# Altium integrated library Microchip PIC32MX.IntLib: 556 symbols (part 1 of 38)
Pins are listed as number, name and electrical type; pins without a type are passive.

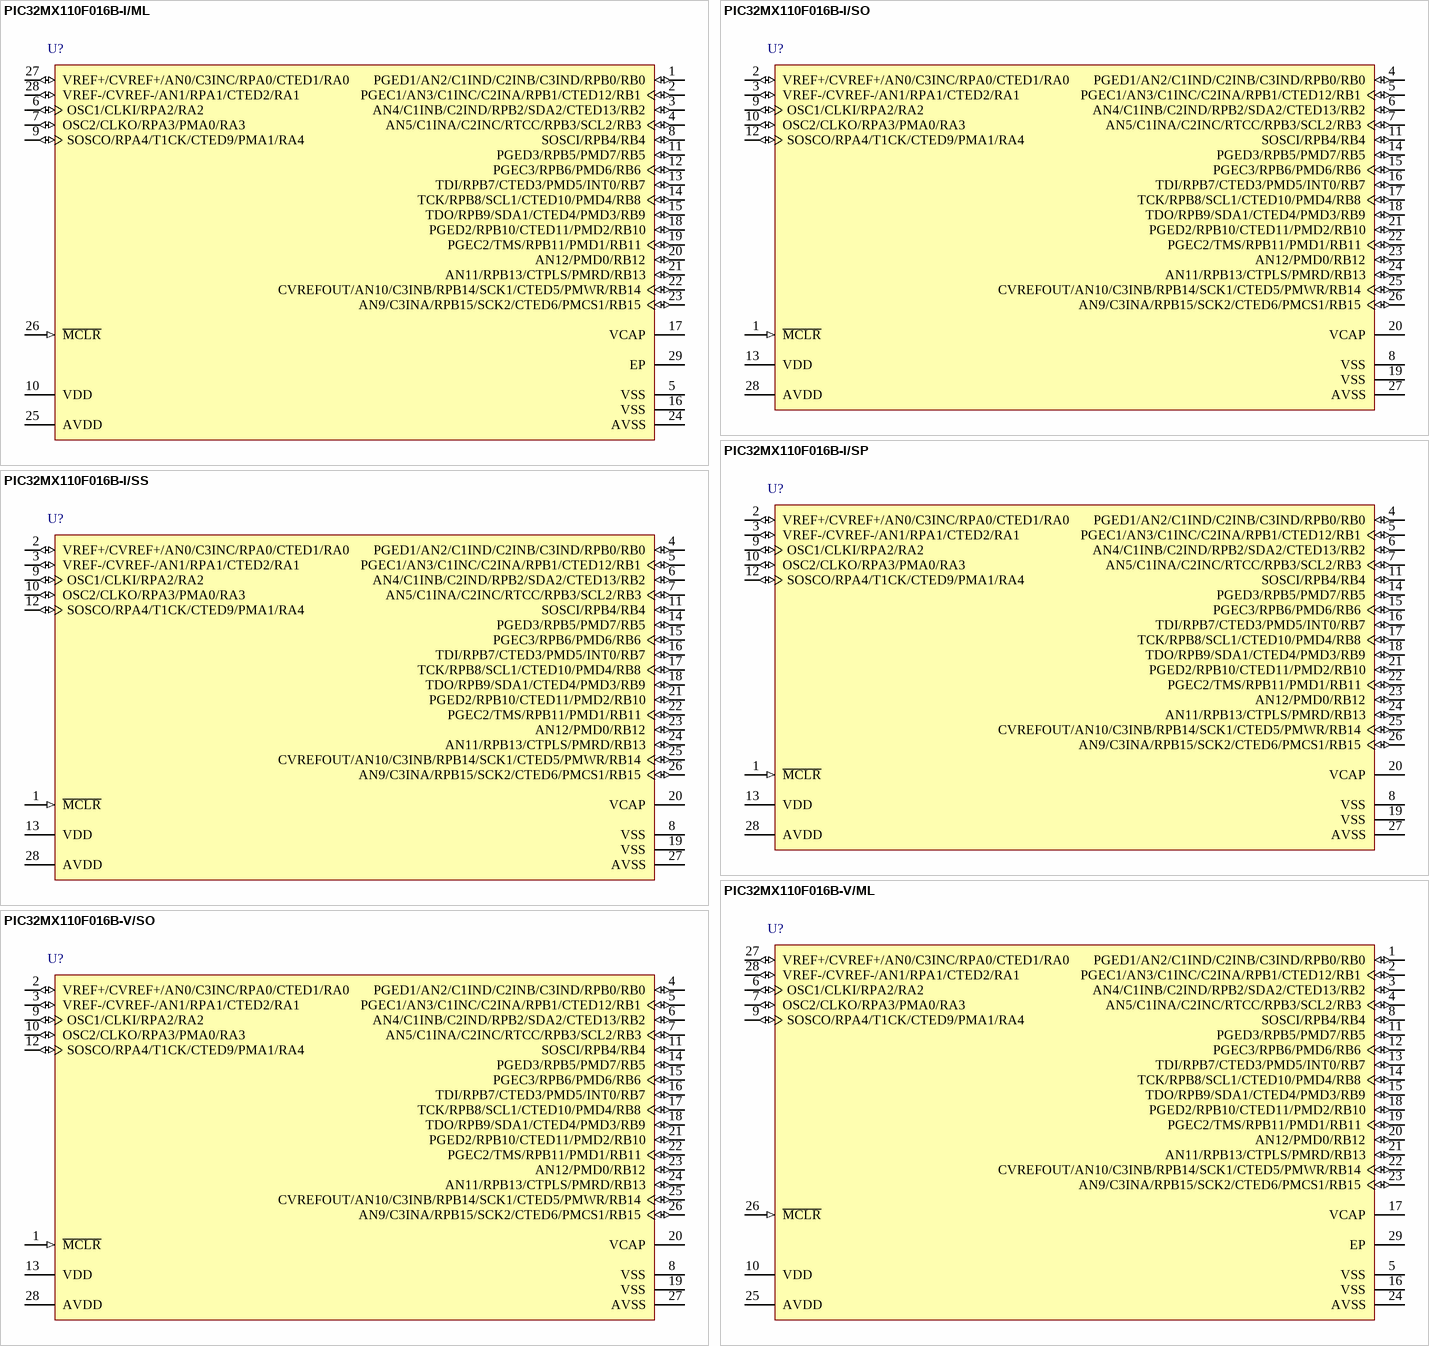
[diagram p0: symbols PIC32MX110F016B-I/ML to PIC32MX110F016B-V/SO]

## PIC32MX110F016B-I/ML
designator U?
32-bit Microcontroller with Audio and Graphics Interface, USB and Advanced Analog, 40 MHz, 21 I/O, PMP, -40 to 85 degC, 28-pin QFN (ML28), Tube; Manufacturer: Microchip; PartNumber: PIC32MX110F016B-I/ML; DatasheetVersion: Rev. E; PackageVersion: C04-105C; PackageReference: QFN-ML28; PackageDescription: 28-Lead Plastic Quad Flat, 6 x 6 mm Body, 0.65 mm Pitch; Supplier 1: Digi-Key; Supplier Part Number 1: PIC32MX110F016B-I/ML-ND; Mounting Technology: Surface Mount; ComponentLink1Description: Manufacturer URL; ComponentLink1URL: http://www.microchip.com; ComponentLink2Description: Datasheet; ComponentLink2URL: http://ww1.microchip.com/downloads/en/DeviceDoc/61168E.pdf; ComponentLink3Description: Package Specification; ComponentLink3URL: http://www.microchip.com/stellent/groups/techpub_sg/documents/packagingspec/en012702.pdf; ComponentLink4Description: Product URL; ComponentLink4URL: http://www.microchip.com/PIC32MX110F016B
footprint MCHP-QFN-ML28_N (QFN, 28-Leads, Body 6x6mm, Pitch 0.65mm, Thermal Pad 3.7x3.7mm, IPC Medium Density)
footprint MCHP-QFN-ML28_L (QFN, 28-Leads, Body 6x6mm, Pitch 0.65mm, Thermal Pad 3.7x3.7mm, IPC High Density)
footprint MCHP-QFN-ML28_M (QFN, 28-Leads, Body 6x6mm, Pitch 0.65mm, Thermal Pad 3.7x3.7mm, IPC Low Density)
pins: 1 PGED1/AN2/C1IND/C2INB/C3IND/RPB0/RB0 (io), 2 PGEC1/AN3/C1INC/C2INA/RPB1/CTED12/RB1 (io), 3 AN4/C1INB/C2IND/RPB2/SDA2/CTED13/RB2 (io), 4 AN5/C1INA/C2INC/RTCC/RPB3/SCL2/RB3 (io), 5 VSS (power) "Ground reference for logic and I/O pins. This pin must be connected at all times.", 6 OSC1/CLKI/RPA2/RA2 (io), 7 OSC2/CLKO/RPA3/PMA0/RA3 (io), 8 SOSCI/RPB4/RB4 (io), 9 SOSCO/RPA4/T1CK/CTED9/PMA1/RA4 (io), 10 VDD (power) "Positive supply for peripheral logic and I/O pins", 11 PGED3/RPB5/PMD7/RB5 (io), 12 PGEC3/RPB6/PMD6/RB6 (io), 13 TDI/RPB7/CTED3/PMD5/INT0/RB7 (io), 14 TCK/RPB8/SCL1/CTED10/PMD4/RB8 (io), 15 TDO/RPB9/SDA1/CTED4/PMD3/RB9 (io), 16 VSS (power) "Ground reference for logic and I/O pins. This pin must be connected at all times.", 17 VCAP "CPU logic filter capacitor connection", 18 PGED2/RPB10/CTED11/PMD2/RB10 (io), 19 PGEC2/TMS/RPB11/PMD1/RB11 (io), 20 AN12/PMD0/RB12 (io), 21 AN11/RPB13/CTPLS/PMRD/RB13 (io), 22 CVREFOUT/AN10/C3INB/RPB14/SCK1/CTED5/PMWR/RB14 (io), 23 AN9/C3INA/RPB15/SCK2/CTED6/PMCS1/RB15 (io), 24 AVSS (power) "Ground reference for analog modules", 25 AVDD (power) "Positive supply for analog modules. This pin must be connected at all times.", 26 ~{MCLR} (in) "Master Clear (Reset) input. This pin is an active-low Reset to the device.", 27 VREF+/CVREF+/AN0/C3INC/RPA0/CTED1/RA0 (io), 28 VREF-/CVREF-/AN1/RPA1/CTED2/RA1 (io), 29 EP

## PIC32MX110F016B-I/SO
designator U?
32-bit Microcontroller with Audio and Graphics Interface, USB and Advanced Analog, 40 MHz, 21 I/O, PMP, -40 to 85 degC, 28-pin SOIC (SO28), Tube; Manufacturer: Microchip; PartNumber: PIC32MX110F016B-I/SO; DatasheetVersion: Rev. E; PackageVersion: C04-052C; PackageReference: SOIC-SO28; PackageDescription: 28-Lead Plastic Small Outline, 17.9 x 7.5 mm Body, 1.27 mm Pitch; Supplier 1: Digi-Key; Supplier Part Number 1: PIC32MX110F016B-I/SO-ND; Mounting Technology: Surface Mount; ComponentLink1Description: Manufacturer URL; ComponentLink1URL: http://www.microchip.com; ComponentLink2Description: Datasheet; ComponentLink2URL: http://ww1.microchip.com/downloads/en/DeviceDoc/61168E.pdf; ComponentLink3Description: Package Specification; ComponentLink3URL: http://www.microchip.com/stellent/groups/techpub_sg/documents/packagingspec/en012702.pdf; ComponentLink4Description: Product URL; ComponentLink4URL: http://www.microchip.com/PIC32MX110F016B
footprint MCHP-SOIC-SO28_N (SOIC, 28-Leads, Body 17.9x7.5mm, Pitch 1.27mm, IPC Medium Density)
footprint MCHP-SOIC-SO28_L (SOIC, 28-Leads, Body 17.9x7.5mm, Pitch 1.27mm, IPC High Density)
footprint MCHP-SOIC-SO28_M (SOIC, 28-Leads, Body 17.9x7.5mm, Pitch 1.27mm, IPC Low Density)
pins: 1 ~{MCLR} (in) "Master Clear (Reset) input. This pin is an active-low Reset to the device", 2 VREF+/CVREF+/AN0/C3INC/RPA0/CTED1/RA0 (io), 3 VREF-/CVREF-/AN1/RPA1/CTED2/RA1 (io), 4 PGED1/AN2/C1IND/C2INB/C3IND/RPB0/RB0 (io), 5 PGEC1/AN3/C1INC/C2INA/RPB1/CTED12/RB1 (io), 6 AN4/C1INB/C2IND/RPB2/SDA2/CTED13/RB2 (io), 7 AN5/C1INA/C2INC/RTCC/RPB3/SCL2/RB3 (io), 8 VSS (power) "Ground reference for logic and I/O pins. This pin must be connected at all times.", 9 OSC1/CLKI/RPA2/RA2 (io), 10 OSC2/CLKO/RPA3/PMA0/RA3 (io), 11 SOSCI/RPB4/RB4 (io), 12 SOSCO/RPA4/T1CK/CTED9/PMA1/RA4 (io), 13 VDD (power) "Positive supply for peripheral logic and I/O pins", 14 PGED3/RPB5/PMD7/RB5 (io), 15 PGEC3/RPB6/PMD6/RB6 (io), 16 TDI/RPB7/CTED3/PMD5/INT0/RB7 (io), 17 TCK/RPB8/SCL1/CTED10/PMD4/RB8 (io), 18 TDO/RPB9/SDA1/CTED4/PMD3/RB9 (io), 19 VSS (power) "Ground reference for logic and I/O pins. This pin must be connected at all times.", 20 VCAP "CPU logic filter capacitor connection", 21 PGED2/RPB10/CTED11/PMD2/RB10 (io), 22 PGEC2/TMS/RPB11/PMD1/RB11 (io), 23 AN12/PMD0/RB12 (io), 24 AN11/RPB13/CTPLS/PMRD/RB13 (io), 25 CVREFOUT/AN10/C3INB/RPB14/SCK1/CTED5/PMWR/RB14 (io), 26 AN9/C3INA/RPB15/SCK2/CTED6/PMCS1/RB15 (io), 27 AVSS (power) "Ground reference for analog modules", 28 AVDD (power) "Positive supply for analog modules. This pin must be connected at all times"

## PIC32MX110F016B-I/SP
designator U?
32-bit Microcontroller with Audio and Graphics Interface, USB and Advanced Analog, 40 MHz, 21 I/O, PMP, -40 to 85 degC, 28-pin SPDIP (SP28), Tube; Manufacturer: Microchip; PartNumber: PIC32MX110F016B-I/SP; DatasheetVersion: Rev. E; PackageVersion: C04-070B; PackageReference: SPDIP-SP28; PackageDescription: 28-Lead Plastic Dual In-Line, 34.86 x 6.79 mm Body, 2.54 mm Pitch; Supplier 1: Digi-Key; Supplier Part Number 1: PIC32MX110F016B-I/SP-ND; Mounting Technology: Through Hole; ComponentLink1Description: Manufacturer URL; ComponentLink1URL: http://www.microchip.com; ComponentLink2Description: Datasheet; ComponentLink2URL: http://ww1.microchip.com/downloads/en/DeviceDoc/61168E.pdf; ComponentLink3Description: Package Specification; ComponentLink3URL: http://www.microchip.com/stellent/groups/techpub_sg/documents/packagingspec/en012702.pdf; ComponentLink4Description: Product URL; ComponentLink4URL: http://www.microchip.com/PIC32MX110F016B
footprint MCHP-SPDIP-SP28 (DIP, 28-Leads, Body 34.86x6.79mm, Pitch 2.54mm)
pins: 1 ~{MCLR} (in) "Master Clear (Reset) input. This pin is an active-low Reset to the device", 2 VREF+/CVREF+/AN0/C3INC/RPA0/CTED1/RA0 (io), 3 VREF-/CVREF-/AN1/RPA1/CTED2/RA1 (io), 4 PGED1/AN2/C1IND/C2INB/C3IND/RPB0/RB0 (io), 5 PGEC1/AN3/C1INC/C2INA/RPB1/CTED12/RB1 (io), 6 AN4/C1INB/C2IND/RPB2/SDA2/CTED13/RB2 (io), 7 AN5/C1INA/C2INC/RTCC/RPB3/SCL2/RB3 (io), 8 VSS (power) "Ground reference for logic and I/O pins. This pin must be connected at all times.", 9 OSC1/CLKI/RPA2/RA2 (io), 10 OSC2/CLKO/RPA3/PMA0/RA3 (io), 11 SOSCI/RPB4/RB4 (io), 12 SOSCO/RPA4/T1CK/CTED9/PMA1/RA4 (io), 13 VDD (power) "Positive supply for peripheral logic and I/O pins", 14 PGED3/RPB5/PMD7/RB5 (io), 15 PGEC3/RPB6/PMD6/RB6 (io), 16 TDI/RPB7/CTED3/PMD5/INT0/RB7 (io), 17 TCK/RPB8/SCL1/CTED10/PMD4/RB8 (io), 18 TDO/RPB9/SDA1/CTED4/PMD3/RB9 (io), 19 VSS (power) "Ground reference for logic and I/O pins. This pin must be connected at all times.", 20 VCAP "CPU logic filter capacitor connection", 21 PGED2/RPB10/CTED11/PMD2/RB10 (io), 22 PGEC2/TMS/RPB11/PMD1/RB11 (io), 23 AN12/PMD0/RB12 (io), 24 AN11/RPB13/CTPLS/PMRD/RB13 (io), 25 CVREFOUT/AN10/C3INB/RPB14/SCK1/CTED5/PMWR/RB14 (io), 26 AN9/C3INA/RPB15/SCK2/CTED6/PMCS1/RB15 (io), 27 AVSS (power) "Ground reference for analog modules", 28 AVDD (power) "Positive supply for analog modules. This pin must be connected at all times"

## PIC32MX110F016B-I/SS
designator U?
32-bit Microcontroller with Audio and Graphics Interface, USB and Advanced Analog, 40 MHz, 21 I/O, PMP, -40 to 85 degC, 28-pin SSOP (SS28), Tube; Manufacturer: Microchip; PartNumber: PIC32MX110F016B-I/SS; DatasheetVersion: Rev. E; PackageVersion: C04-073B; PackageReference: SSOP-SS28; PackageDescription: 28-Lead Plastic Shrink Small Outline, 10.2 x 5.3 mm Body, 0.65 mm Pitch; Supplier 1: Digi-Key; Supplier Part Number 1: PIC32MX110F016B-I/SS-ND; Mounting Technology: Surface Mount; ComponentLink1Description: Manufacturer URL; ComponentLink1URL: http://www.microchip.com; ComponentLink2Description: Datasheet; ComponentLink2URL: http://ww1.microchip.com/downloads/en/DeviceDoc/61168E.pdf; ComponentLink3Description: Package Specification; ComponentLink3URL: http://www.microchip.com/stellent/groups/techpub_sg/documents/packagingspec/en012702.pdf; ComponentLink4Description: Product URL; ComponentLink4URL: http://www.microchip.com/PIC32MX110F016B
footprint MCHP-SSOP-SS28_N (SOP, 28-Leads, Body 10.2x5.3mm, Pitch 0.65mm, IPC Medium Density)
footprint MCHP-SSOP-SS28_L (SOP, 28-Leads, Body 10.2x5.3mm, Pitch 0.65mm, IPC High Density)
footprint MCHP-SSOP-SS28_M (SOP, 28-Leads, Body 10.2x5.3mm, Pitch 0.65mm, IPC Low Density)
pins: 1 ~{MCLR} (in) "Master Clear (Reset) input. This pin is an active-low Reset to the device", 2 VREF+/CVREF+/AN0/C3INC/RPA0/CTED1/RA0 (io), 3 VREF-/CVREF-/AN1/RPA1/CTED2/RA1 (io), 4 PGED1/AN2/C1IND/C2INB/C3IND/RPB0/RB0 (io), 5 PGEC1/AN3/C1INC/C2INA/RPB1/CTED12/RB1 (io), 6 AN4/C1INB/C2IND/RPB2/SDA2/CTED13/RB2 (io), 7 AN5/C1INA/C2INC/RTCC/RPB3/SCL2/RB3 (io), 8 VSS (power) "Ground reference for logic and I/O pins. This pin must be connected at all times.", 9 OSC1/CLKI/RPA2/RA2 (io), 10 OSC2/CLKO/RPA3/PMA0/RA3 (io), 11 SOSCI/RPB4/RB4 (io), 12 SOSCO/RPA4/T1CK/CTED9/PMA1/RA4 (io), 13 VDD (power) "Positive supply for peripheral logic and I/O pins", 14 PGED3/RPB5/PMD7/RB5 (io), 15 PGEC3/RPB6/PMD6/RB6 (io), 16 TDI/RPB7/CTED3/PMD5/INT0/RB7 (io), 17 TCK/RPB8/SCL1/CTED10/PMD4/RB8 (io), 18 TDO/RPB9/SDA1/CTED4/PMD3/RB9 (io), 19 VSS (power) "Ground reference for logic and I/O pins. This pin must be connected at all times.", 20 VCAP "CPU logic filter capacitor connection", 21 PGED2/RPB10/CTED11/PMD2/RB10 (io), 22 PGEC2/TMS/RPB11/PMD1/RB11 (io), 23 AN12/PMD0/RB12 (io), 24 AN11/RPB13/CTPLS/PMRD/RB13 (io), 25 CVREFOUT/AN10/C3INB/RPB14/SCK1/CTED5/PMWR/RB14 (io), 26 AN9/C3INA/RPB15/SCK2/CTED6/PMCS1/RB15 (io), 27 AVSS (power) "Ground reference for analog modules", 28 AVDD (power) "Positive supply for analog modules. This pin must be connected at all times"

## PIC32MX110F016B-V/ML
designator U?
32-bit Microcontroller with Audio and Graphics Interface, USB and Advanced Analog, 40 MHz, 21 I/O, PMP, 28-pin QFN (ML28), Tube; Manufacturer: Microchip; PartNumber: PIC32MX110F016B-V/ML; DatasheetVersion: Rev. E; PackageVersion: C04-105C; PackageReference: QFN-ML28; PackageDescription: 28-Lead Plastic Quad Flat, 6 x 6 mm Body, 0.65 mm Pitch; Supplier 1: Digi-Key; Supplier Part Number 1: PIC32MX110F016B-V/ML-ND; Mounting Technology: Surface Mount; ComponentLink1Description: Manufacturer URL; ComponentLink1URL: http://www.microchip.com; ComponentLink2Description: Datasheet; ComponentLink2URL: http://ww1.microchip.com/downloads/en/DeviceDoc/61168E.pdf; ComponentLink3Description: Package Specification; ComponentLink3URL: http://www.microchip.com/stellent/groups/techpub_sg/documents/packagingspec/en012702.pdf; ComponentLink4Description: Product URL; ComponentLink4URL: http://www.microchip.com/PIC32MX110F016B
footprint MCHP-QFN-ML28_N (QFN, 28-Leads, Body 6x6mm, Pitch 0.65mm, Thermal Pad 3.7x3.7mm, IPC Medium Density)
footprint MCHP-QFN-ML28_L (QFN, 28-Leads, Body 6x6mm, Pitch 0.65mm, Thermal Pad 3.7x3.7mm, IPC High Density)
footprint MCHP-QFN-ML28_M (QFN, 28-Leads, Body 6x6mm, Pitch 0.65mm, Thermal Pad 3.7x3.7mm, IPC Low Density)
pins: 1 PGED1/AN2/C1IND/C2INB/C3IND/RPB0/RB0 (io), 2 PGEC1/AN3/C1INC/C2INA/RPB1/CTED12/RB1 (io), 3 AN4/C1INB/C2IND/RPB2/SDA2/CTED13/RB2 (io), 4 AN5/C1INA/C2INC/RTCC/RPB3/SCL2/RB3 (io), 5 VSS (power) "Ground reference for logic and I/O pins. This pin must be connected at all times.", 6 OSC1/CLKI/RPA2/RA2 (io), 7 OSC2/CLKO/RPA3/PMA0/RA3 (io), 8 SOSCI/RPB4/RB4 (io), 9 SOSCO/RPA4/T1CK/CTED9/PMA1/RA4 (io), 10 VDD (power) "Positive supply for peripheral logic and I/O pins", 11 PGED3/RPB5/PMD7/RB5 (io), 12 PGEC3/RPB6/PMD6/RB6 (io), 13 TDI/RPB7/CTED3/PMD5/INT0/RB7 (io), 14 TCK/RPB8/SCL1/CTED10/PMD4/RB8 (io), 15 TDO/RPB9/SDA1/CTED4/PMD3/RB9 (io), 16 VSS (power) "Ground reference for logic and I/O pins. This pin must be connected at all times.", 17 VCAP "CPU logic filter capacitor connection", 18 PGED2/RPB10/CTED11/PMD2/RB10 (io), 19 PGEC2/TMS/RPB11/PMD1/RB11 (io), 20 AN12/PMD0/RB12 (io), 21 AN11/RPB13/CTPLS/PMRD/RB13 (io), 22 CVREFOUT/AN10/C3INB/RPB14/SCK1/CTED5/PMWR/RB14 (io), 23 AN9/C3INA/RPB15/SCK2/CTED6/PMCS1/RB15 (io), 24 AVSS (power) "Ground reference for analog modules", 25 AVDD (power) "Positive supply for analog modules. This pin must be connected at all times.", 26 ~{MCLR} (in) "Master Clear (Reset) input. This pin is an active-low Reset to the device.", 27 VREF+/CVREF+/AN0/C3INC/RPA0/CTED1/RA0 (io), 28 VREF-/CVREF-/AN1/RPA1/CTED2/RA1 (io), 29 EP

## PIC32MX110F016B-V/SO
designator U?
32-bit Microcontroller with Audio and Graphics Interface, USB and Advanced Analog, 40 MHz, 21 I/O, PMP, 28-pin SOIC (SO28), Tube; Manufacturer: Microchip; PartNumber: PIC32MX110F016B-V/SO; DatasheetVersion: Rev. E; PackageVersion: C04-052C; PackageReference: SOIC-SO28; PackageDescription: 28-Lead Plastic Small Outline, 17.9 x 7.5 mm Body, 1.27 mm Pitch; Supplier 1: Digi-Key; Supplier Part Number 1: PIC32MX110F016B-V/SO-ND; Mounting Technology: Surface Mount; ComponentLink1Description: Manufacturer URL; ComponentLink1URL: http://www.microchip.com; ComponentLink2Description: Datasheet; ComponentLink2URL: http://ww1.microchip.com/downloads/en/DeviceDoc/61168E.pdf; ComponentLink3Description: Package Specification; ComponentLink3URL: http://www.microchip.com/stellent/groups/techpub_sg/documents/packagingspec/en012702.pdf; ComponentLink4Description: Product URL; ComponentLink4URL: http://www.microchip.com/PIC32MX110F016B
footprint MCHP-SOIC-SO28_N (SOIC, 28-Leads, Body 17.9x7.5mm, Pitch 1.27mm, IPC Medium Density)
footprint MCHP-SOIC-SO28_L (SOIC, 28-Leads, Body 17.9x7.5mm, Pitch 1.27mm, IPC High Density)
footprint MCHP-SOIC-SO28_M (SOIC, 28-Leads, Body 17.9x7.5mm, Pitch 1.27mm, IPC Low Density)
pins: 1 ~{MCLR} (in) "Master Clear (Reset) input. This pin is an active-low Reset to the device", 2 VREF+/CVREF+/AN0/C3INC/RPA0/CTED1/RA0 (io), 3 VREF-/CVREF-/AN1/RPA1/CTED2/RA1 (io), 4 PGED1/AN2/C1IND/C2INB/C3IND/RPB0/RB0 (io), 5 PGEC1/AN3/C1INC/C2INA/RPB1/CTED12/RB1 (io), 6 AN4/C1INB/C2IND/RPB2/SDA2/CTED13/RB2 (io), 7 AN5/C1INA/C2INC/RTCC/RPB3/SCL2/RB3 (io), 8 VSS (power) "Ground reference for logic and I/O pins. This pin must be connected at all times.", 9 OSC1/CLKI/RPA2/RA2 (io), 10 OSC2/CLKO/RPA3/PMA0/RA3 (io), 11 SOSCI/RPB4/RB4 (io), 12 SOSCO/RPA4/T1CK/CTED9/PMA1/RA4 (io), 13 VDD (power) "Positive supply for peripheral logic and I/O pins", 14 PGED3/RPB5/PMD7/RB5 (io), 15 PGEC3/RPB6/PMD6/RB6 (io), 16 TDI/RPB7/CTED3/PMD5/INT0/RB7 (io), 17 TCK/RPB8/SCL1/CTED10/PMD4/RB8 (io), 18 TDO/RPB9/SDA1/CTED4/PMD3/RB9 (io), 19 VSS (power) "Ground reference for logic and I/O pins. This pin must be connected at all times.", 20 VCAP "CPU logic filter capacitor connection", 21 PGED2/RPB10/CTED11/PMD2/RB10 (io), 22 PGEC2/TMS/RPB11/PMD1/RB11 (io), 23 AN12/PMD0/RB12 (io), 24 AN11/RPB13/CTPLS/PMRD/RB13 (io), 25 CVREFOUT/AN10/C3INB/RPB14/SCK1/CTED5/PMWR/RB14 (io), 26 AN9/C3INA/RPB15/SCK2/CTED6/PMCS1/RB15 (io), 27 AVSS (power) "Ground reference for analog modules", 28 AVDD (power) "Positive supply for analog modules. This pin must be connected at all times"

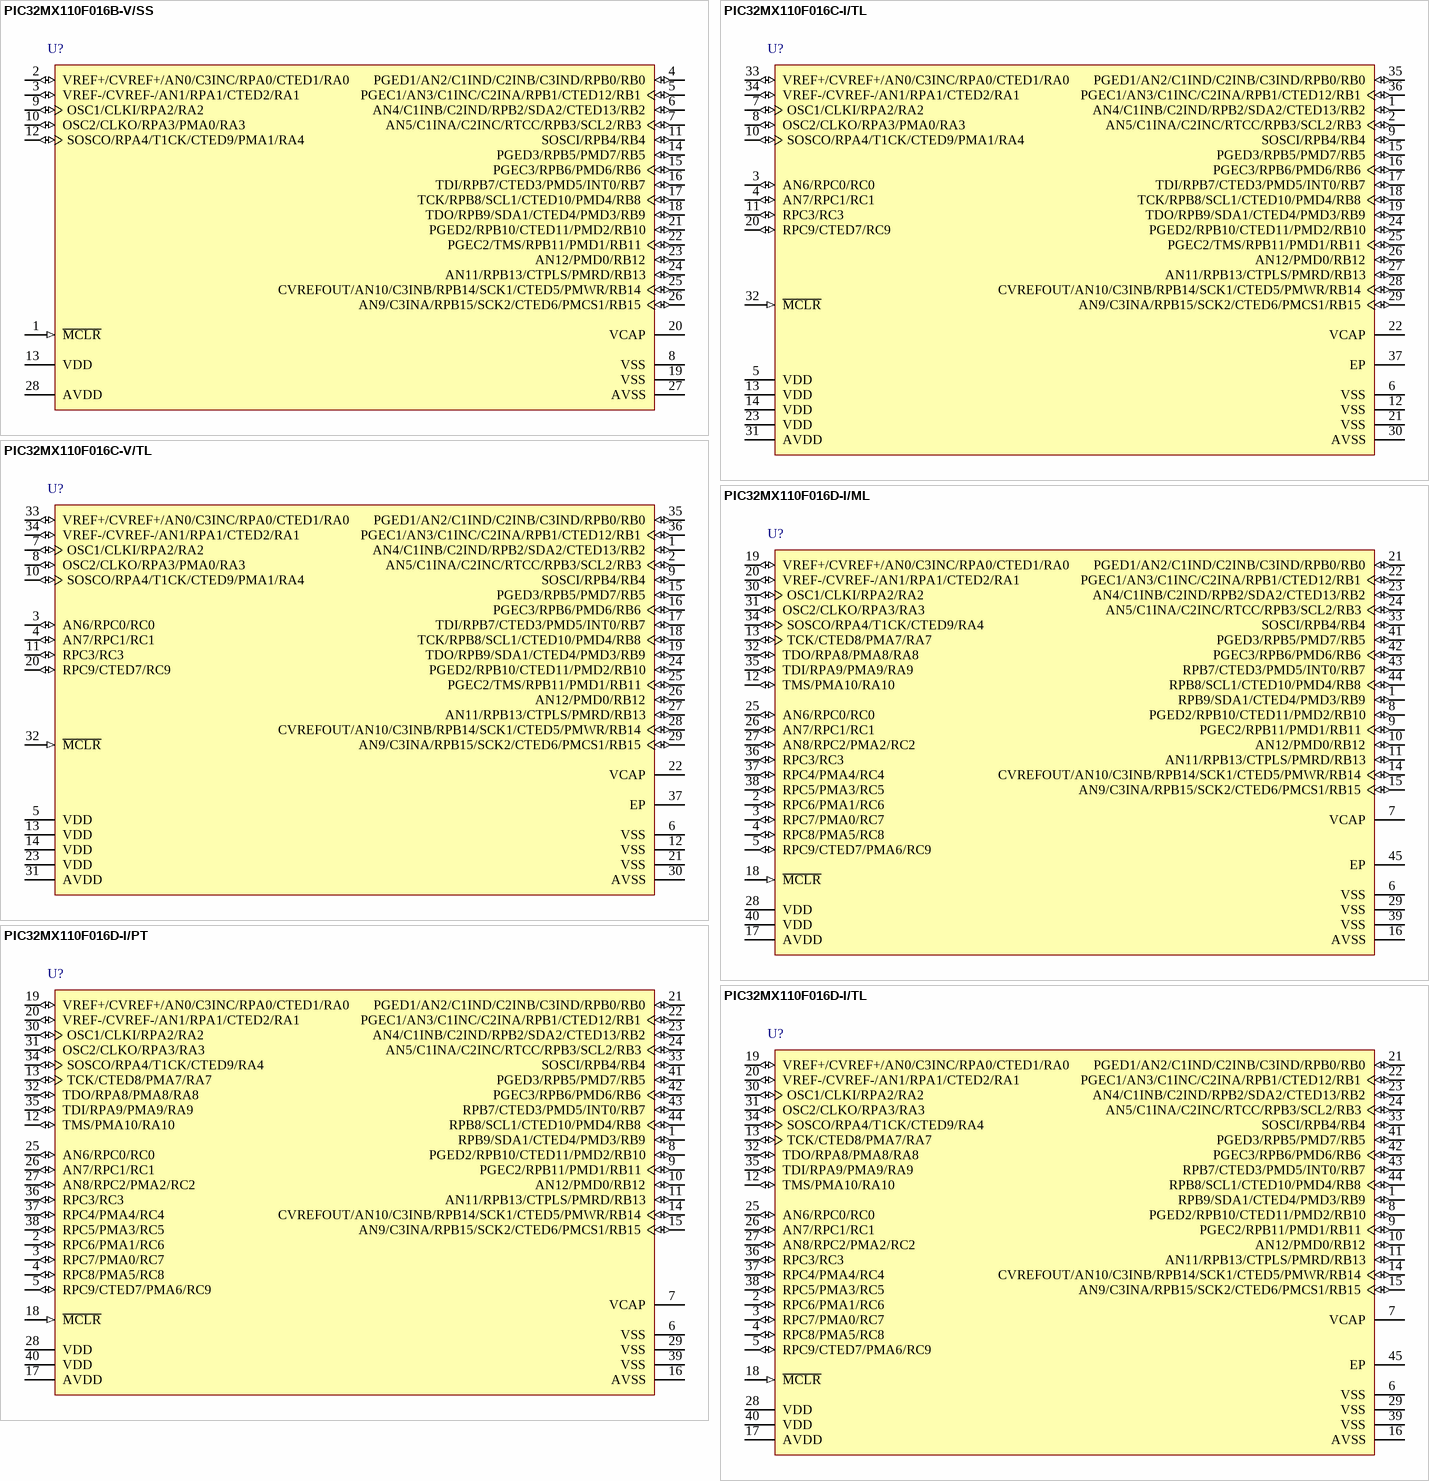
[diagram p1: symbols PIC32MX110F016B-V/SS to PIC32MX110F016D-I/TL]

## PIC32MX110F016B-V/SS
designator U?
32-bit Microcontroller with Audio and Graphics Interface, USB and Advanced Analog, 40 MHz, 21 I/O, PMP, 28-pin SSOP (SS28), Tube; Manufacturer: Microchip; PartNumber: PIC32MX110F016B-V/SS; DatasheetVersion: Rev. E; PackageVersion: C04-073B; PackageReference: SSOP-SS28; PackageDescription: 28-Lead Plastic Shrink Small Outline, 10.2 x 5.3 mm Body, 0.65 mm Pitch; Supplier 1: Digi-Key; Supplier Part Number 1: PIC32MX110F016B-V/SS-ND; Mounting Technology: Surface Mount; ComponentLink1Description: Manufacturer URL; ComponentLink1URL: http://www.microchip.com; ComponentLink2Description: Datasheet; ComponentLink2URL: http://ww1.microchip.com/downloads/en/DeviceDoc/61168E.pdf; ComponentLink3Description: Package Specification; ComponentLink3URL: http://www.microchip.com/stellent/groups/techpub_sg/documents/packagingspec/en012702.pdf; ComponentLink4Description: Product URL; ComponentLink4URL: http://www.microchip.com/PIC32MX110F016B
footprint MCHP-SSOP-SS28_N (SOP, 28-Leads, Body 10.2x5.3mm, Pitch 0.65mm, IPC Medium Density)
footprint MCHP-SSOP-SS28_L (SOP, 28-Leads, Body 10.2x5.3mm, Pitch 0.65mm, IPC High Density)
footprint MCHP-SSOP-SS28_M (SOP, 28-Leads, Body 10.2x5.3mm, Pitch 0.65mm, IPC Low Density)
pins: 1 ~{MCLR} (in) "Master Clear (Reset) input. This pin is an active-low Reset to the device", 2 VREF+/CVREF+/AN0/C3INC/RPA0/CTED1/RA0 (io), 3 VREF-/CVREF-/AN1/RPA1/CTED2/RA1 (io), 4 PGED1/AN2/C1IND/C2INB/C3IND/RPB0/RB0 (io), 5 PGEC1/AN3/C1INC/C2INA/RPB1/CTED12/RB1 (io), 6 AN4/C1INB/C2IND/RPB2/SDA2/CTED13/RB2 (io), 7 AN5/C1INA/C2INC/RTCC/RPB3/SCL2/RB3 (io), 8 VSS (power) "Ground reference for logic and I/O pins. This pin must be connected at all times.", 9 OSC1/CLKI/RPA2/RA2 (io), 10 OSC2/CLKO/RPA3/PMA0/RA3 (io), 11 SOSCI/RPB4/RB4 (io), 12 SOSCO/RPA4/T1CK/CTED9/PMA1/RA4 (io), 13 VDD (power) "Positive supply for peripheral logic and I/O pins", 14 PGED3/RPB5/PMD7/RB5 (io), 15 PGEC3/RPB6/PMD6/RB6 (io), 16 TDI/RPB7/CTED3/PMD5/INT0/RB7 (io), 17 TCK/RPB8/SCL1/CTED10/PMD4/RB8 (io), 18 TDO/RPB9/SDA1/CTED4/PMD3/RB9 (io), 19 VSS (power) "Ground reference for logic and I/O pins. This pin must be connected at all times.", 20 VCAP "CPU logic filter capacitor connection", 21 PGED2/RPB10/CTED11/PMD2/RB10 (io), 22 PGEC2/TMS/RPB11/PMD1/RB11 (io), 23 AN12/PMD0/RB12 (io), 24 AN11/RPB13/CTPLS/PMRD/RB13 (io), 25 CVREFOUT/AN10/C3INB/RPB14/SCK1/CTED5/PMWR/RB14 (io), 26 AN9/C3INA/RPB15/SCK2/CTED6/PMCS1/RB15 (io), 27 AVSS (power) "Ground reference for analog modules", 28 AVDD (power) "Positive supply for analog modules. This pin must be connected at all times"

## PIC32MX110F016C-I/TL
designator U?
32-bit Microcontroller with Audio and Graphics Interface, USB and Advanced Analog, 40 MHz, 25 I/O, PMP, -40 to 85 degC, 36-pin VTLA (TL36), Tube; Manufacturer: Microchip; PartNumber: PIC32MX110F016C-I/TL; DatasheetVersion: Rev. E; PackageVersion: C04-187C; PackageReference: VTLA-TL36; PackageDescription: 36-Lead Terminal Very Thin Thermal Leadless Array Package, 5 x 5 mm Body, 0.5 mm Pitch; Supplier 1: Digi-Key; Supplier Part Number 1: PIC32MX110F016C-I/TL-ND; Mounting Technology: Surface Mount; ComponentLink1Description: Manufacturer URL; ComponentLink1URL: http://www.microchip.com; ComponentLink2Description: Datasheet; ComponentLink2URL: http://ww1.microchip.com/downloads/en/DeviceDoc/61168E.pdf; ComponentLink3Description: Package Specification; ComponentLink3URL: http://www.microchip.com/stellent/groups/techpub_sg/documents/packagingspec/en012702.pdf; ComponentLink4Description: Product URL; ComponentLink4URL: http://www.microchip.com/PIC32MX110F016C
footprint MCHP-VTLA-TL36_N (QFN, 36-Leads, Body 5x5mm, Pitch 0.5mm, Thermal Pad 3.75x3.75mm, IPC Medium Density)
footprint MCHP-VTLA-TL36_L (QFN, 36-Leads, Body 5x5mm, Pitch 0.5mm, Thermal Pad 3.75x3.75mm, IPC High Density)
footprint MCHP-VTLA-TL36_M (QFN, 36-Leads, Body 5x5mm, Pitch 0.5mm, Thermal Pad 3.75x3.75mm, IPC Low Density)
pins: 1 AN4/C1INB/C2IND/RPB2/SDA2/CTED13/RB2 (io), 2 AN5/C1INA/C2INC/RTCC/RPB3/SCL2/RB3 (io), 3 AN6/RPC0/RC0 (io), 4 AN7/RPC1/RC1 (io), 5 VDD (power) "Positive supply for peripheral logic and I/O pins", 6 VSS (power) "Ground reference for logic and I/O pins. This pin must be connected at all times.", 7 OSC1/CLKI/RPA2/RA2 (io), 8 OSC2/CLKO/RPA3/PMA0/RA3 (io), 9 SOSCI/RPB4/RB4 (io), 10 SOSCO/RPA4/T1CK/CTED9/PMA1/RA4 (io), 11 RPC3/RC3 (io), 12 VSS (power) "Ground reference for logic and I/O pins. This pin must be connected at all times.", 13 VDD (power) "Positive supply for peripheral logic and I/O pins", 14 VDD (power) "Positive supply for peripheral logic and I/O pins", 15 PGED3/RPB5/PMD7/RB5 (io), 16 PGEC3/RPB6/PMD6/RB6 (io), 17 TDI/RPB7/CTED3/PMD5/INT0/RB7 (io), 18 TCK/RPB8/SCL1/CTED10/PMD4/RB8 (io), 19 TDO/RPB9/SDA1/CTED4/PMD3/RB9 (io), 20 RPC9/CTED7/RC9 (io), 21 VSS (power) "Ground reference for logic and I/O pins. This pin must be connected at all times.", 22 VCAP "CPU logic filter capacitor connection", 23 VDD (power) "Positive supply for peripheral logic and I/O pins", 24 PGED2/RPB10/CTED11/PMD2/RB10 (io), 25 PGEC2/TMS/RPB11/PMD1/RB11 (io), 26 AN12/PMD0/RB12 (io), 27 AN11/RPB13/CTPLS/PMRD/RB13 (io), 28 CVREFOUT/AN10/C3INB/RPB14/SCK1/CTED5/PMWR/RB14 (io), 29 AN9/C3INA/RPB15/SCK2/CTED6/PMCS1/RB15 (io), 30 AVSS (power) "Ground reference for analog modules", 31 AVDD (power) "Positive supply for analog modules. This pin must be connected at all times.", 32 ~{MCLR} (in) "Master Clear (Reset) input. This pin is an active-low Reset to the device.", 33 VREF+/CVREF+/AN0/C3INC/RPA0/CTED1/RA0 (io), 34 VREF-/CVREF-/AN1/RPA1/CTED2/RA1 (io), 35 PGED1/AN2/C1IND/C2INB/C3IND/RPB0/RB0 (io), 36 PGEC1/AN3/C1INC/C2INA/RPB1/CTED12/RB1 (io), 37 EP (power)

## PIC32MX110F016C-V/TL
designator U?
32-bit Microcontroller with Audio and Graphics Interface, USB and Advanced Analog, 40 MHz, 25 I/O, PMP, 36-pin VTLA (TL36), Tube; Manufacturer: Microchip; PartNumber: PIC32MX110F016C-V/TL; DatasheetVersion: Rev. E; PackageVersion: C04-187C; PackageReference: VTLA-TL36; PackageDescription: 36-Lead Terminal Very Thin Thermal Leadless Array Package, 5 x 5 mm Body, 0.5 mm Pitch; Supplier 1: Digi-Key; Supplier Part Number 1: PIC32MX110F016C-V/TL-ND; Mounting Technology: Surface Mount; ComponentLink1Description: Manufacturer URL; ComponentLink1URL: http://www.microchip.com; ComponentLink2Description: Datasheet; ComponentLink2URL: http://ww1.microchip.com/downloads/en/DeviceDoc/61168E.pdf; ComponentLink3Description: Package Specification; ComponentLink3URL: http://www.microchip.com/stellent/groups/techpub_sg/documents/packagingspec/en012702.pdf; ComponentLink4Description: Product URL; ComponentLink4URL: http://www.microchip.com/PIC32MX110F016C
footprint MCHP-VTLA-TL36_N (QFN, 36-Leads, Body 5x5mm, Pitch 0.5mm, Thermal Pad 3.75x3.75mm, IPC Medium Density)
footprint MCHP-VTLA-TL36_L (QFN, 36-Leads, Body 5x5mm, Pitch 0.5mm, Thermal Pad 3.75x3.75mm, IPC High Density)
footprint MCHP-VTLA-TL36_M (QFN, 36-Leads, Body 5x5mm, Pitch 0.5mm, Thermal Pad 3.75x3.75mm, IPC Low Density)
pins: 1 AN4/C1INB/C2IND/RPB2/SDA2/CTED13/RB2 (io), 2 AN5/C1INA/C2INC/RTCC/RPB3/SCL2/RB3 (io), 3 AN6/RPC0/RC0 (io), 4 AN7/RPC1/RC1 (io), 5 VDD (power) "Positive supply for peripheral logic and I/O pins", 6 VSS (power) "Ground reference for logic and I/O pins. This pin must be connected at all times.", 7 OSC1/CLKI/RPA2/RA2 (io), 8 OSC2/CLKO/RPA3/PMA0/RA3 (io), 9 SOSCI/RPB4/RB4 (io), 10 SOSCO/RPA4/T1CK/CTED9/PMA1/RA4 (io), 11 RPC3/RC3 (io), 12 VSS (power) "Ground reference for logic and I/O pins. This pin must be connected at all times.", 13 VDD (power) "Positive supply for peripheral logic and I/O pins", 14 VDD (power) "Positive supply for peripheral logic and I/O pins", 15 PGED3/RPB5/PMD7/RB5 (io), 16 PGEC3/RPB6/PMD6/RB6 (io), 17 TDI/RPB7/CTED3/PMD5/INT0/RB7 (io), 18 TCK/RPB8/SCL1/CTED10/PMD4/RB8 (io), 19 TDO/RPB9/SDA1/CTED4/PMD3/RB9 (io), 20 RPC9/CTED7/RC9 (io), 21 VSS (power) "Ground reference for logic and I/O pins. This pin must be connected at all times.", 22 VCAP "CPU logic filter capacitor connection", 23 VDD (power) "Positive supply for peripheral logic and I/O pins", 24 PGED2/RPB10/CTED11/PMD2/RB10 (io), 25 PGEC2/TMS/RPB11/PMD1/RB11 (io), 26 AN12/PMD0/RB12 (io), 27 AN11/RPB13/CTPLS/PMRD/RB13 (io), 28 CVREFOUT/AN10/C3INB/RPB14/SCK1/CTED5/PMWR/RB14 (io), 29 AN9/C3INA/RPB15/SCK2/CTED6/PMCS1/RB15 (io), 30 AVSS (power) "Ground reference for analog modules", 31 AVDD (power) "Positive supply for analog modules. This pin must be connected at all times.", 32 ~{MCLR} (in) "Master Clear (Reset) input. This pin is an active-low Reset to the device.", 33 VREF+/CVREF+/AN0/C3INC/RPA0/CTED1/RA0 (io), 34 VREF-/CVREF-/AN1/RPA1/CTED2/RA1 (io), 35 PGED1/AN2/C1IND/C2INB/C3IND/RPB0/RB0 (io), 36 PGEC1/AN3/C1INC/C2INA/RPB1/CTED12/RB1 (io), 37 EP (power)

## PIC32MX110F016D-I/ML
designator U?
32-bit Microcontroller with Audio and Graphics Interface, USB and Advanced Analog, 40 MHz, 34 I/O, PMP, -40 to 85 degC, 44-pin QFN (ML44), Tube; Manufacturer: Microchip; PartNumber: PIC32MX110F016D-I/ML; DatasheetVersion: Rev. E; PackageVersion: C04-103C; PackageReference: QFN-ML44; PackageDescription: 44-Lead Plastic Quad Flat, 8 x 8 mm Body, 0.65 mm Pitch; Supplier 1: Digi-Key; Supplier Part Number 1: PIC32MX110F016D-I/ML-ND; Mounting Technology: Surface Mount; ComponentLink1Description: Manufacturer URL; ComponentLink1URL: http://www.microchip.com; ComponentLink2Description: Datasheet; ComponentLink2URL: http://ww1.microchip.com/downloads/en/DeviceDoc/61168E.pdf; ComponentLink3Description: Package Specification; ComponentLink3URL: http://www.microchip.com/stellent/groups/techpub_sg/documents/packagingspec/en012702.pdf; ComponentLink4Description: Product URL; ComponentLink4URL: http://www.microchip.com/PIC32MX110F016D
footprint MCHP-QFN-ML44_N (QFN, 44-Leads, Body 8x8mm, Pitch 0.65mm, Thermal Pad 6.425x6.425mm, IPC Medium Density)
footprint MCHP-QFN-ML44_L (QFN, 44-Leads, Body 8x8mm, Pitch 0.65mm, Thermal Pad 6.425x6.425mm, IPC High Density)
footprint MCHP-QFN-ML44_M (QFN, 44-Leads, Body 8x8mm, Pitch 0.65mm, Thermal Pad 6.425x6.425mm, IPC Low Density)
pins: 1 RPB9/SDA1/CTED4/PMD3/RB9 (io), 2 RPC6/PMA1/RC6 (io), 3 RPC7/PMA0/RC7 (io), 4 RPC8/PMA5/RC8 (io), 5 RPC9/CTED7/PMA6/RC9 (io), 6 VSS (power) "Ground reference for analog modules", 7 VCAP "CPU logic filter capacitor connection", 8 PGED2/RPB10/CTED11/PMD2/RB10 (io), 9 PGEC2/RPB11/PMD1/RB11 (io), 10 AN12/PMD0/RB12 (io), 11 AN11/RPB13/CTPLS/PMRD/RB13 (io), 12 TMS/PMA10/RA10 (io), 13 TCK/CTED8/PMA7/RA7 (io), 14 CVREFOUT/AN10/C3INB/RPB14/SCK1/CTED5/PMWR/RB14 (io), 15 AN9/C3INA/RPB15/SCK2/CTED6/PMCS1/RB15 (io), 16 AVSS (power) "Ground reference for logic and I/O pins. This pin must be connected at all times.", 17 AVDD (power) "Positive supply for analog modules. This pin must be connected at all times.", 18 ~{MCLR} (in) "Master Clear (Reset) input. This pin is an active-low Reset to the device.", 19 VREF+/CVREF+/AN0/C3INC/RPA0/CTED1/RA0 (io), 20 VREF-/CVREF-/AN1/RPA1/CTED2/RA1 (io), 21 PGED1/AN2/C1IND/C2INB/C3IND/RPB0/RB0 (io), 22 PGEC1/AN3/C1INC/C2INA/RPB1/CTED12/RB1 (io), 23 AN4/C1INB/C2IND/RPB2/SDA2/CTED13/RB2 (io), 24 AN5/C1INA/C2INC/RTCC/RPB3/SCL2/RB3 (io), 25 AN6/RPC0/RC0 (io), 26 AN7/RPC1/RC1 (io), 27 AN8/RPC2/PMA2/RC2 (io), 28 VDD (power) "Positive supply for peripheral logic and I/O pins", 29 VSS (power) "Ground reference for analog modules", 30 OSC1/CLKI/RPA2/RA2 (io), 31 OSC2/CLKO/RPA3/RA3 (io), 32 TDO/RPA8/PMA8/RA8 (io), 33 SOSCI/RPB4/RB4 (io), 34 SOSCO/RPA4/T1CK/CTED9/RA4 (io), 35 TDI/RPA9/PMA9/RA9 (io), 36 RPC3/RC3 (io), 37 RPC4/PMA4/RC4 (io), 38 RPC5/PMA3/RC5 (io), 39 VSS (power) "Ground reference for analog modules", 40 VDD (power) "Positive supply for peripheral logic and I/O pins", 41 PGED3/RPB5/PMD7/RB5 (io), 42 PGEC3/RPB6/PMD6/RB6 (io), 43 RPB7/CTED3/PMD5/INT0/RB7 (io), 44 RPB8/SCL1/CTED10/PMD4/RB8 (io), 45 EP (power) "The metal plane at the bottom of the device is not connected to any pins and is recommended to be connected to VSS externally."

## PIC32MX110F016D-I/PT
designator U?
32-bit Microcontroller with Audio and Graphics Interface, USB and Advanced Analog, 40 MHz, 34 I/O, PMP, -40 to 85 degC, 44-pin TQFP (PT44), Tray; Manufacturer: Microchip; PartNumber: PIC32MX110F016D-I/PT; DatasheetVersion: Rev. E; PackageVersion: C04-076B; PackageReference: TQFP-PT44; PackageDescription: 44-Lead Plastic Thin Quad Flatpack, 10 x 10 mm Body, 0.8 mm Pitch; Supplier 1: Digi-Key; Supplier Part Number 1: PIC32MX110F016D-I/PT-ND; Mounting Technology: Surface Mount; ComponentLink1Description: Manufacturer URL; ComponentLink1URL: http://www.microchip.com; ComponentLink2Description: Datasheet; ComponentLink2URL: http://ww1.microchip.com/downloads/en/DeviceDoc/61168E.pdf; ComponentLink3Description: Package Specification; ComponentLink3URL: http://www.microchip.com/stellent/groups/techpub_sg/documents/packagingspec/en012702.pdf; ComponentLink4Description: Product URL; ComponentLink4URL: http://www.microchip.com/PIC32MX110F016D
footprint MCHP-TQFP-PT44_N (QFN, 44-Leads, Body 10x10mm, Pitch 0.8mm, IPC Medium Density)
footprint MCHP-TQFP-PT44_L (QFN, 44-Leads, Body 10x10mm, Pitch 0.8mm, IPC High Density)
footprint MCHP-TQFP-PT44_M (QFN, 44-Leads, Body 10x10mm, Pitch 0.8mm, IPC Low Density)
pins: 1 RPB9/SDA1/CTED4/PMD3/RB9 (io), 2 RPC6/PMA1/RC6 (io), 3 RPC7/PMA0/RC7 (io), 4 RPC8/PMA5/RC8 (io), 5 RPC9/CTED7/PMA6/RC9 (io), 6 VSS (power) "Ground reference for logic and I/O pins. This pin must be connected at all times.", 7 VCAP "CPU logic filter capacitor connection", 8 PGED2/RPB10/CTED11/PMD2/RB10 (io), 9 PGEC2/RPB11/PMD1/RB11 (io), 10 AN12/PMD0/RB12 (io), 11 AN11/RPB13/CTPLS/PMRD/RB13 (io), 12 TMS/PMA10/RA10 (io), 13 TCK/CTED8/PMA7/RA7 (io), 14 CVREFOUT/AN10/C3INB/RPB14/SCK1/CTED5/PMWR/RB14 (io), 15 AN9/C3INA/RPB15/SCK2/CTED6/PMCS1/RB15 (io), 16 AVSS (power) "Ground reference for analog modules", 17 AVDD (power) "Positive supply for analog modules. This pin must be connected at all times.", 18 ~{MCLR} (in) "Master Clear (Reset) input. This pin is an active-low Reset to the device.", 19 VREF+/CVREF+/AN0/C3INC/RPA0/CTED1/RA0 (io), 20 VREF-/CVREF-/AN1/RPA1/CTED2/RA1 (io), 21 PGED1/AN2/C1IND/C2INB/C3IND/RPB0/RB0 (io), 22 PGEC1/AN3/C1INC/C2INA/RPB1/CTED12/RB1 (io), 23 AN4/C1INB/C2IND/RPB2/SDA2/CTED13/RB2 (io), 24 AN5/C1INA/C2INC/RTCC/RPB3/SCL2/RB3 (io), 25 AN6/RPC0/RC0 (io), 26 AN7/RPC1/RC1 (io), 27 AN8/RPC2/PMA2/RC2 (io), 28 VDD (power) "Positive supply for peripheral logic and I/O pins", 29 VSS (power) "Ground reference for logic and I/O pins. This pin must be connected at all times.", 30 OSC1/CLKI/RPA2/RA2 (io), 31 OSC2/CLKO/RPA3/RA3 (io), 32 TDO/RPA8/PMA8/RA8 (io), 33 SOSCI/RPB4/RB4 (io), 34 SOSCO/RPA4/T1CK/CTED9/RA4 (io), 35 TDI/RPA9/PMA9/RA9 (io), 36 RPC3/RC3 (io), 37 RPC4/PMA4/RC4 (io), 38 RPC5/PMA3/RC5 (io), 39 VSS (power) "Ground reference for logic and I/O pins. This pin must be connected at all times.", 40 VDD (power) "Positive supply for peripheral logic and I/O pins", 41 PGED3/RPB5/PMD7/RB5 (io), 42 PGEC3/RPB6/PMD6/RB6 (io), 43 RPB7/CTED3/PMD5/INT0/RB7 (io), 44 RPB8/SCL1/CTED10/PMD4/RB8 (io)

## PIC32MX110F016D-I/TL
designator U?
32-bit Microcontroller with Audio and Graphics Interface, USB and Advanced Analog, 40 MHz, 34 I/O, PMP, -40 to 85 degC, 44-pin VTLA (TL44), Tube; Manufacturer: Microchip; PartNumber: PIC32MX110F016D-I/TL; DatasheetVersion: Rev. E; PackageVersion: C04-157C; PackageReference: VTLA-TL44; PackageDescription: 44-Lead Terminal Very Thin Leadless Array Package, 6 x 6 mm Body, 0.5 mm Pitch; Supplier 1: Digi-Key; Supplier Part Number 1: PIC32MX110F016D-I/TL-ND; Mounting Technology: Surface Mount; ComponentLink1Description: Manufacturer URL; ComponentLink1URL: http://www.microchip.com; ComponentLink2Description: Datasheet; ComponentLink2URL: http://ww1.microchip.com/downloads/en/DeviceDoc/61168E.pdf; ComponentLink3Description: Package Specification; ComponentLink3URL: http://www.microchip.com/stellent/groups/techpub_sg/documents/packagingspec/en012702.pdf; ComponentLink4Description: Product URL; ComponentLink4URL: http://www.microchip.com/PIC32MX110F016D
footprint MCHP-VTLA-TL44_N (QFN, 44-Leads, Body 6x6mm, Pitch 0.5mm, Thermal Pad 4.55x4.55mm, IPC Medium Density)
footprint MCHP-VTLA-TL44_L (QFN, 44-Leads, Body 6x6mm, Pitch 0.5mm, Thermal Pad 4.55x4.55mm, IPC High Density)
footprint MCHP-VTLA-TL44_M (QFN, 44-Leads, Body 6x6mm, Pitch 0.5mm, Thermal Pad 4.55x4.55mm, IPC Low Density)
pins: 1 RPB9/SDA1/CTED4/PMD3/RB9 (io), 2 RPC6/PMA1/RC6 (io), 3 RPC7/PMA0/RC7 (io), 4 RPC8/PMA5/RC8 (io), 5 RPC9/CTED7/PMA6/RC9 (io), 6 VSS (power) "Ground reference for analog modules", 7 VCAP "CPU logic filter capacitor connection", 8 PGED2/RPB10/CTED11/PMD2/RB10 (io), 9 PGEC2/RPB11/PMD1/RB11 (io), 10 AN12/PMD0/RB12 (io), 11 AN11/RPB13/CTPLS/PMRD/RB13 (io), 12 TMS/PMA10/RA10 (io), 13 TCK/CTED8/PMA7/RA7 (io), 14 CVREFOUT/AN10/C3INB/RPB14/SCK1/CTED5/PMWR/RB14 (io), 15 AN9/C3INA/RPB15/SCK2/CTED6/PMCS1/RB15 (io), 16 AVSS (power) "Ground reference for logic and I/O pins. This pin must be connected at all times.", 17 AVDD (power) "Positive supply for analog modules. This pin must be connected at all times.", 18 ~{MCLR} (in) "Master Clear (Reset) input. This pin is an active-low Reset to the device.", 19 VREF+/CVREF+/AN0/C3INC/RPA0/CTED1/RA0 (io), 20 VREF-/CVREF-/AN1/RPA1/CTED2/RA1 (io), 21 PGED1/AN2/C1IND/C2INB/C3IND/RPB0/RB0 (io), 22 PGEC1/AN3/C1INC/C2INA/RPB1/CTED12/RB1 (io), 23 AN4/C1INB/C2IND/RPB2/SDA2/CTED13/RB2 (io), 24 AN5/C1INA/C2INC/RTCC/RPB3/SCL2/RB3 (io), 25 AN6/RPC0/RC0 (io), 26 AN7/RPC1/RC1 (io), 27 AN8/RPC2/PMA2/RC2 (io), 28 VDD (power) "Positive supply for peripheral logic and I/O pins", 29 VSS (power) "Ground reference for analog modules", 30 OSC1/CLKI/RPA2/RA2 (io), 31 OSC2/CLKO/RPA3/RA3 (io), 32 TDO/RPA8/PMA8/RA8 (io), 33 SOSCI/RPB4/RB4 (io), 34 SOSCO/RPA4/T1CK/CTED9/RA4 (io), 35 TDI/RPA9/PMA9/RA9 (io), 36 RPC3/RC3 (io), 37 RPC4/PMA4/RC4 (io), 38 RPC5/PMA3/RC5 (io), 39 VSS (power) "Ground reference for analog modules", 40 VDD (power) "Positive supply for peripheral logic and I/O pins", 41 PGED3/RPB5/PMD7/RB5 (io), 42 PGEC3/RPB6/PMD6/RB6 (io), 43 RPB7/CTED3/PMD5/INT0/RB7 (io), 44 RPB8/SCL1/CTED10/PMD4/RB8 (io), 45 EP (power) "The metal plane at the bottom of the device is not connected to any pins and is recommended to be connected to VSS externally."

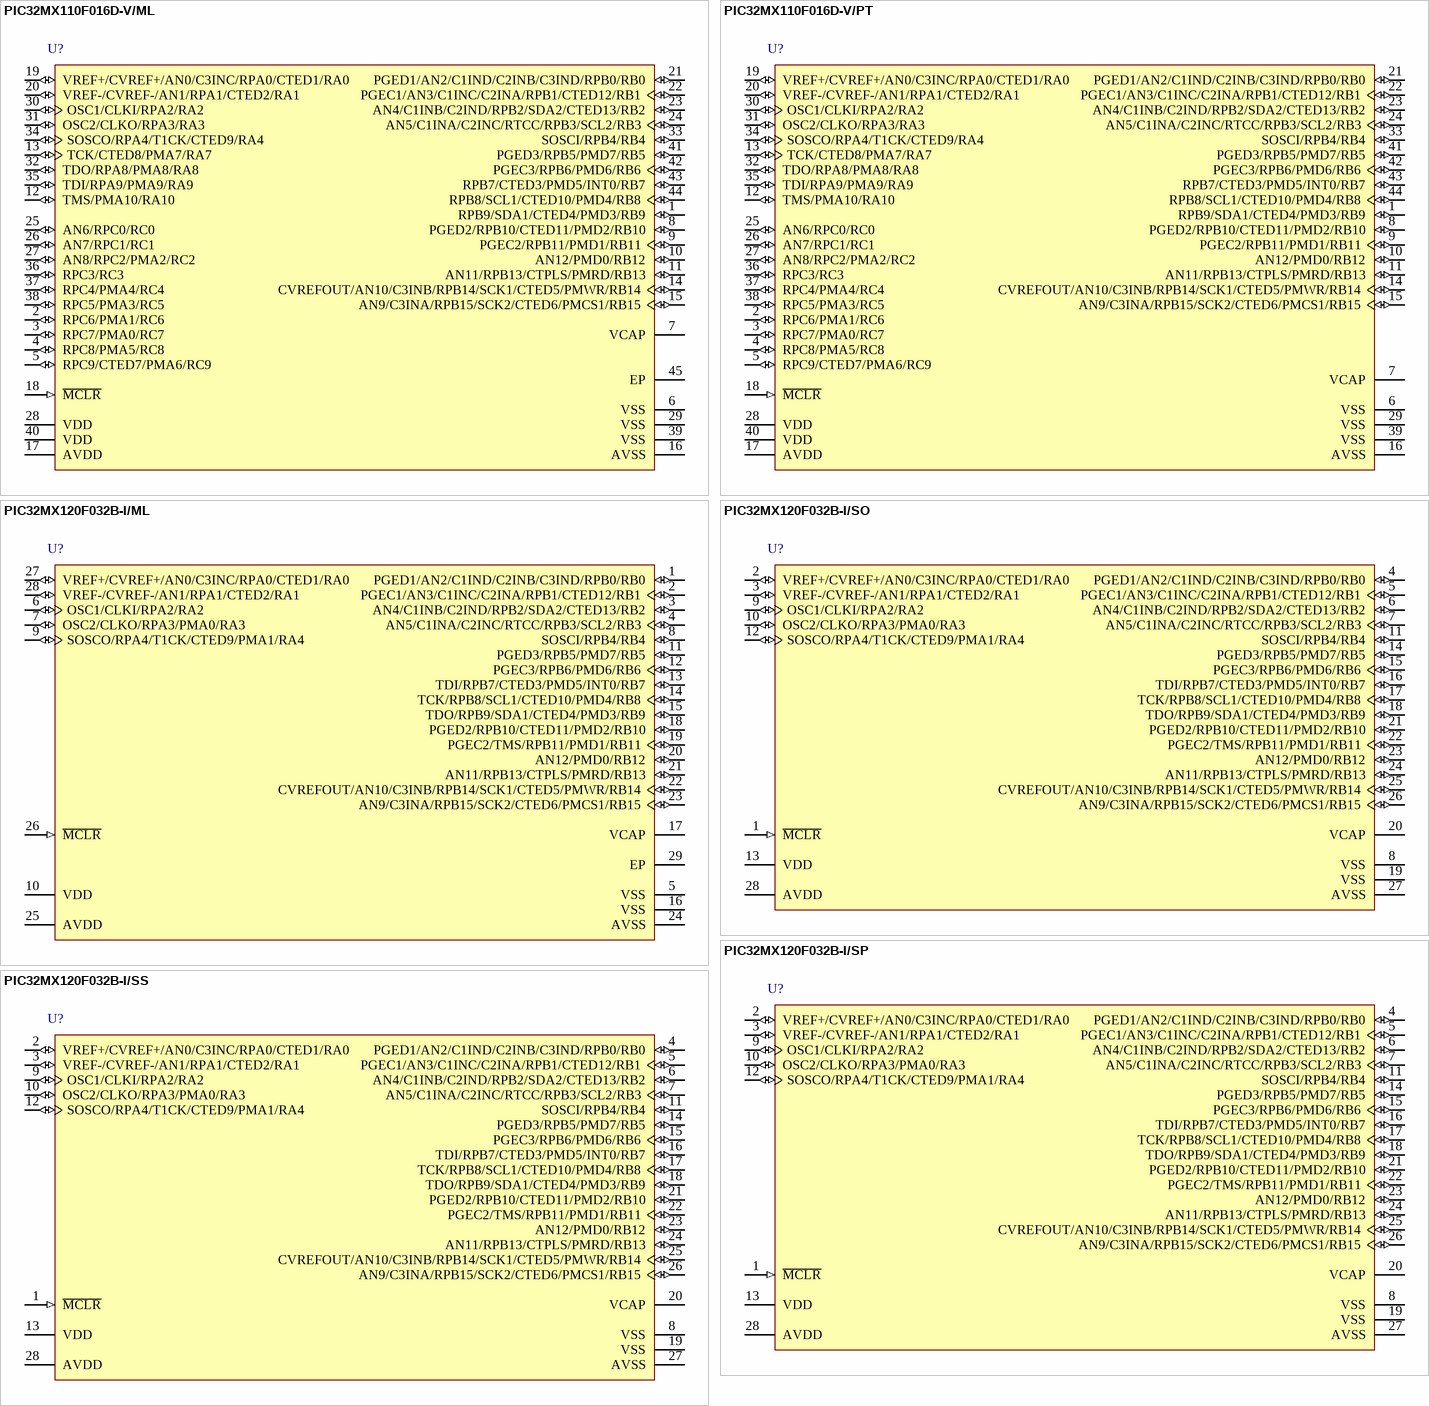
[diagram p2: symbols PIC32MX110F016D-V/ML to PIC32MX120F032B-I/SS]

## PIC32MX110F016D-V/ML
designator U?
32-bit Microcontroller with Audio and Graphics Interface, USB and Advanced Analog, 40 MHz, 34 I/O, PMP, 44-pin QFN (ML44), Tube; Manufacturer: Microchip; PartNumber: PIC32MX110F016D-V/ML; DatasheetVersion: Rev. E; PackageVersion: C04-103C; PackageReference: QFN-ML44; PackageDescription: 44-Lead Plastic Quad Flat, 8 x 8 mm Body, 0.65 mm Pitch; Supplier 1: Digi-Key; Supplier Part Number 1: PIC32MX110F016D-V/ML-ND; Mounting Technology: Surface Mount; ComponentLink1Description: Manufacturer URL; ComponentLink1URL: http://www.microchip.com; ComponentLink2Description: Datasheet; ComponentLink2URL: http://ww1.microchip.com/downloads/en/DeviceDoc/61168E.pdf; ComponentLink3Description: Package Specification; ComponentLink3URL: http://www.microchip.com/stellent/groups/techpub_sg/documents/packagingspec/en012702.pdf; ComponentLink4Description: Product URL; ComponentLink4URL: http://www.microchip.com/PIC32MX110F016D
footprint MCHP-QFN-ML44_N (QFN, 44-Leads, Body 8x8mm, Pitch 0.65mm, Thermal Pad 6.425x6.425mm, IPC Medium Density)
footprint MCHP-QFN-ML44_L (QFN, 44-Leads, Body 8x8mm, Pitch 0.65mm, Thermal Pad 6.425x6.425mm, IPC High Density)
footprint MCHP-QFN-ML44_M (QFN, 44-Leads, Body 8x8mm, Pitch 0.65mm, Thermal Pad 6.425x6.425mm, IPC Low Density)
pins: 1 RPB9/SDA1/CTED4/PMD3/RB9 (io), 2 RPC6/PMA1/RC6 (io), 3 RPC7/PMA0/RC7 (io), 4 RPC8/PMA5/RC8 (io), 5 RPC9/CTED7/PMA6/RC9 (io), 6 VSS (power) "Ground reference for analog modules", 7 VCAP "CPU logic filter capacitor connection", 8 PGED2/RPB10/CTED11/PMD2/RB10 (io), 9 PGEC2/RPB11/PMD1/RB11 (io), 10 AN12/PMD0/RB12 (io), 11 AN11/RPB13/CTPLS/PMRD/RB13 (io), 12 TMS/PMA10/RA10 (io), 13 TCK/CTED8/PMA7/RA7 (io), 14 CVREFOUT/AN10/C3INB/RPB14/SCK1/CTED5/PMWR/RB14 (io), 15 AN9/C3INA/RPB15/SCK2/CTED6/PMCS1/RB15 (io), 16 AVSS (power) "Ground reference for logic and I/O pins. This pin must be connected at all times.", 17 AVDD (power) "Positive supply for analog modules. This pin must be connected at all times.", 18 ~{MCLR} (in) "Master Clear (Reset) input. This pin is an active-low Reset to the device.", 19 VREF+/CVREF+/AN0/C3INC/RPA0/CTED1/RA0 (io), 20 VREF-/CVREF-/AN1/RPA1/CTED2/RA1 (io), 21 PGED1/AN2/C1IND/C2INB/C3IND/RPB0/RB0 (io), 22 PGEC1/AN3/C1INC/C2INA/RPB1/CTED12/RB1 (io), 23 AN4/C1INB/C2IND/RPB2/SDA2/CTED13/RB2 (io), 24 AN5/C1INA/C2INC/RTCC/RPB3/SCL2/RB3 (io), 25 AN6/RPC0/RC0 (io), 26 AN7/RPC1/RC1 (io), 27 AN8/RPC2/PMA2/RC2 (io), 28 VDD (power) "Positive supply for peripheral logic and I/O pins", 29 VSS (power) "Ground reference for analog modules", 30 OSC1/CLKI/RPA2/RA2 (io), 31 OSC2/CLKO/RPA3/RA3 (io), 32 TDO/RPA8/PMA8/RA8 (io), 33 SOSCI/RPB4/RB4 (io), 34 SOSCO/RPA4/T1CK/CTED9/RA4 (io), 35 TDI/RPA9/PMA9/RA9 (io), 36 RPC3/RC3 (io), 37 RPC4/PMA4/RC4 (io), 38 RPC5/PMA3/RC5 (io), 39 VSS (power) "Ground reference for analog modules", 40 VDD (power) "Positive supply for peripheral logic and I/O pins", 41 PGED3/RPB5/PMD7/RB5 (io), 42 PGEC3/RPB6/PMD6/RB6 (io), 43 RPB7/CTED3/PMD5/INT0/RB7 (io), 44 RPB8/SCL1/CTED10/PMD4/RB8 (io), 45 EP (power) "The metal plane at the bottom of the device is not connected to any pins and is recommended to be connected to VSS externally."

## PIC32MX110F016D-V/PT
designator U?
32-bit Microcontroller with Audio and Graphics Interface, USB and Advanced Analog, 40 MHz, 34 I/O, PMP, 44-pin TQFP (PT44), Tray; Manufacturer: Microchip; PartNumber: PIC32MX110F016D-V/PT; DatasheetVersion: Rev. E; PackageVersion: C04-076B; PackageReference: TQFP-PT44; PackageDescription: 44-Lead Plastic Thin Quad Flatpack, 10 x 10 mm Body, 0.8 mm Pitch; Supplier 1: Digi-Key; Supplier Part Number 1: PIC32MX110F016D-V/PT-ND; Mounting Technology: Surface Mount; ComponentLink1Description: Manufacturer URL; ComponentLink1URL: http://www.microchip.com; ComponentLink2Description: Datasheet; ComponentLink2URL: http://ww1.microchip.com/downloads/en/DeviceDoc/61168E.pdf; ComponentLink3Description: Package Specification; ComponentLink3URL: http://www.microchip.com/stellent/groups/techpub_sg/documents/packagingspec/en012702.pdf; ComponentLink4Description: Product URL; ComponentLink4URL: http://www.microchip.com/PIC32MX110F016D
footprint MCHP-TQFP-PT44_N (QFN, 44-Leads, Body 10x10mm, Pitch 0.8mm, IPC Medium Density)
footprint MCHP-TQFP-PT44_L (QFN, 44-Leads, Body 10x10mm, Pitch 0.8mm, IPC High Density)
footprint MCHP-TQFP-PT44_M (QFN, 44-Leads, Body 10x10mm, Pitch 0.8mm, IPC Low Density)
pins: 1 RPB9/SDA1/CTED4/PMD3/RB9 (io), 2 RPC6/PMA1/RC6 (io), 3 RPC7/PMA0/RC7 (io), 4 RPC8/PMA5/RC8 (io), 5 RPC9/CTED7/PMA6/RC9 (io), 6 VSS (power) "Ground reference for logic and I/O pins. This pin must be connected at all times.", 7 VCAP "CPU logic filter capacitor connection", 8 PGED2/RPB10/CTED11/PMD2/RB10 (io), 9 PGEC2/RPB11/PMD1/RB11 (io), 10 AN12/PMD0/RB12 (io), 11 AN11/RPB13/CTPLS/PMRD/RB13 (io), 12 TMS/PMA10/RA10 (io), 13 TCK/CTED8/PMA7/RA7 (io), 14 CVREFOUT/AN10/C3INB/RPB14/SCK1/CTED5/PMWR/RB14 (io), 15 AN9/C3INA/RPB15/SCK2/CTED6/PMCS1/RB15 (io), 16 AVSS (power) "Ground reference for analog modules", 17 AVDD (power) "Positive supply for analog modules. This pin must be connected at all times.", 18 ~{MCLR} (in) "Master Clear (Reset) input. This pin is an active-low Reset to the device.", 19 VREF+/CVREF+/AN0/C3INC/RPA0/CTED1/RA0 (io), 20 VREF-/CVREF-/AN1/RPA1/CTED2/RA1 (io), 21 PGED1/AN2/C1IND/C2INB/C3IND/RPB0/RB0 (io), 22 PGEC1/AN3/C1INC/C2INA/RPB1/CTED12/RB1 (io), 23 AN4/C1INB/C2IND/RPB2/SDA2/CTED13/RB2 (io), 24 AN5/C1INA/C2INC/RTCC/RPB3/SCL2/RB3 (io), 25 AN6/RPC0/RC0 (io), 26 AN7/RPC1/RC1 (io), 27 AN8/RPC2/PMA2/RC2 (io), 28 VDD (power) "Positive supply for peripheral logic and I/O pins", 29 VSS (power) "Ground reference for logic and I/O pins. This pin must be connected at all times.", 30 OSC1/CLKI/RPA2/RA2 (io), 31 OSC2/CLKO/RPA3/RA3 (io), 32 TDO/RPA8/PMA8/RA8 (io), 33 SOSCI/RPB4/RB4 (io), 34 SOSCO/RPA4/T1CK/CTED9/RA4 (io), 35 TDI/RPA9/PMA9/RA9 (io), 36 RPC3/RC3 (io), 37 RPC4/PMA4/RC4 (io), 38 RPC5/PMA3/RC5 (io), 39 VSS (power) "Ground reference for logic and I/O pins. This pin must be connected at all times.", 40 VDD (power) "Positive supply for peripheral logic and I/O pins", 41 PGED3/RPB5/PMD7/RB5 (io), 42 PGEC3/RPB6/PMD6/RB6 (io), 43 RPB7/CTED3/PMD5/INT0/RB7 (io), 44 RPB8/SCL1/CTED10/PMD4/RB8 (io)

## PIC32MX120F032B-I/ML
designator U?
32-bit Microcontroller with Audio and Graphics Interface, USB and Advanced Analog, 50 MHz, 21 I/O, PMP, -40 to 85 degC, 28-pin QFN (ML28), Tube; Manufacturer: Microchip; PartNumber: PIC32MX120F032B-I/ML; DatasheetVersion: Rev. E; PackageVersion: C04-105C; PackageReference: QFN-ML28; PackageDescription: 28-Lead Plastic Quad Flat, 6 x 6 mm Body, 0.65 mm Pitch; Supplier 1: Digi-Key; Supplier Part Number 1: PIC32MX120F032B-I/ML-ND; Mounting Technology: Surface Mount; ComponentLink1Description: Manufacturer URL; ComponentLink1URL: http://www.microchip.com; ComponentLink2Description: Datasheet; ComponentLink2URL: http://ww1.microchip.com/downloads/en/DeviceDoc/61168E.pdf; ComponentLink3Description: Package Specification; ComponentLink3URL: http://www.microchip.com/stellent/groups/techpub_sg/documents/packagingspec/en012702.pdf; ComponentLink4Description: Product URL; ComponentLink4URL: http://www.microchip.com/PIC32MX120F032B
footprint MCHP-QFN-ML28_N (QFN, 28-Leads, Body 6x6mm, Pitch 0.65mm, Thermal Pad 3.7x3.7mm, IPC Medium Density)
footprint MCHP-QFN-ML28_L (QFN, 28-Leads, Body 6x6mm, Pitch 0.65mm, Thermal Pad 3.7x3.7mm, IPC High Density)
footprint MCHP-QFN-ML28_M (QFN, 28-Leads, Body 6x6mm, Pitch 0.65mm, Thermal Pad 3.7x3.7mm, IPC Low Density)
pins: 1 PGED1/AN2/C1IND/C2INB/C3IND/RPB0/RB0 (io), 2 PGEC1/AN3/C1INC/C2INA/RPB1/CTED12/RB1 (io), 3 AN4/C1INB/C2IND/RPB2/SDA2/CTED13/RB2 (io), 4 AN5/C1INA/C2INC/RTCC/RPB3/SCL2/RB3 (io), 5 VSS (power) "Ground reference for logic and I/O pins. This pin must be connected at all times.", 6 OSC1/CLKI/RPA2/RA2 (io), 7 OSC2/CLKO/RPA3/PMA0/RA3 (io), 8 SOSCI/RPB4/RB4 (io), 9 SOSCO/RPA4/T1CK/CTED9/PMA1/RA4 (io), 10 VDD (power) "Positive supply for peripheral logic and I/O pins", 11 PGED3/RPB5/PMD7/RB5 (io), 12 PGEC3/RPB6/PMD6/RB6 (io), 13 TDI/RPB7/CTED3/PMD5/INT0/RB7 (io), 14 TCK/RPB8/SCL1/CTED10/PMD4/RB8 (io), 15 TDO/RPB9/SDA1/CTED4/PMD3/RB9 (io), 16 VSS (power) "Ground reference for logic and I/O pins. This pin must be connected at all times.", 17 VCAP "CPU logic filter capacitor connection", 18 PGED2/RPB10/CTED11/PMD2/RB10 (io), 19 PGEC2/TMS/RPB11/PMD1/RB11 (io), 20 AN12/PMD0/RB12 (io), 21 AN11/RPB13/CTPLS/PMRD/RB13 (io), 22 CVREFOUT/AN10/C3INB/RPB14/SCK1/CTED5/PMWR/RB14 (io), 23 AN9/C3INA/RPB15/SCK2/CTED6/PMCS1/RB15 (io), 24 AVSS (power) "Ground reference for analog modules", 25 AVDD (power) "Positive supply for analog modules. This pin must be connected at all times.", 26 ~{MCLR} (in) "Master Clear (Reset) input. This pin is an active-low Reset to the device.", 27 VREF+/CVREF+/AN0/C3INC/RPA0/CTED1/RA0 (io), 28 VREF-/CVREF-/AN1/RPA1/CTED2/RA1 (io), 29 EP (power)

## PIC32MX120F032B-I/SO
designator U?
32-bit Microcontroller with Audio and Graphics Interface, USB and Advanced Analog, 50 MHz, 21 I/O, PMP, -40 to 85 degC, 28-pin SOIC (SO28), Tube; Manufacturer: Microchip; PartNumber: PIC32MX120F032B-I/SO; DatasheetVersion: Rev. E; PackageVersion: C04-052C; PackageReference: SOIC-SO28; PackageDescription: 28-Lead Plastic Small Outline, 17.9 x 7.5 mm Body, 1.27 mm Pitch; Supplier 1: Digi-Key; Supplier Part Number 1: PIC32MX120F032B-I/SO-ND; Mounting Technology: Surface Mount; ComponentLink1Description: Manufacturer URL; ComponentLink1URL: http://www.microchip.com; ComponentLink2Description: Datasheet; ComponentLink2URL: http://ww1.microchip.com/downloads/en/DeviceDoc/61168E.pdf; ComponentLink3Description: Package Specification; ComponentLink3URL: http://www.microchip.com/stellent/groups/techpub_sg/documents/packagingspec/en012702.pdf; ComponentLink4Description: Product URL; ComponentLink4URL: http://www.microchip.com/PIC32MX120F032B
footprint MCHP-SOIC-SO28_N (SOIC, 28-Leads, Body 17.9x7.5mm, Pitch 1.27mm, IPC Medium Density)
footprint MCHP-SOIC-SO28_L (SOIC, 28-Leads, Body 17.9x7.5mm, Pitch 1.27mm, IPC High Density)
footprint MCHP-SOIC-SO28_M (SOIC, 28-Leads, Body 17.9x7.5mm, Pitch 1.27mm, IPC Low Density)
pins: 1 ~{MCLR} (in) "Master Clear (Reset) input. This pin is an active-low Reset to the device", 2 VREF+/CVREF+/AN0/C3INC/RPA0/CTED1/RA0 (io), 3 VREF-/CVREF-/AN1/RPA1/CTED2/RA1 (io), 4 PGED1/AN2/C1IND/C2INB/C3IND/RPB0/RB0 (io), 5 PGEC1/AN3/C1INC/C2INA/RPB1/CTED12/RB1 (io), 6 AN4/C1INB/C2IND/RPB2/SDA2/CTED13/RB2 (io), 7 AN5/C1INA/C2INC/RTCC/RPB3/SCL2/RB3 (io), 8 VSS (power) "Ground reference for logic and I/O pins. This pin must be connected at all times.", 9 OSC1/CLKI/RPA2/RA2 (io), 10 OSC2/CLKO/RPA3/PMA0/RA3 (io), 11 SOSCI/RPB4/RB4 (io), 12 SOSCO/RPA4/T1CK/CTED9/PMA1/RA4 (io), 13 VDD (power) "Positive supply for peripheral logic and I/O pins", 14 PGED3/RPB5/PMD7/RB5 (io), 15 PGEC3/RPB6/PMD6/RB6 (io), 16 TDI/RPB7/CTED3/PMD5/INT0/RB7 (io), 17 TCK/RPB8/SCL1/CTED10/PMD4/RB8 (io), 18 TDO/RPB9/SDA1/CTED4/PMD3/RB9 (io), 19 VSS (power) "Ground reference for logic and I/O pins. This pin must be connected at all times.", 20 VCAP "CPU logic filter capacitor connection", 21 PGED2/RPB10/CTED11/PMD2/RB10 (io), 22 PGEC2/TMS/RPB11/PMD1/RB11 (io), 23 AN12/PMD0/RB12 (io), 24 AN11/RPB13/CTPLS/PMRD/RB13 (io), 25 CVREFOUT/AN10/C3INB/RPB14/SCK1/CTED5/PMWR/RB14 (io), 26 AN9/C3INA/RPB15/SCK2/CTED6/PMCS1/RB15 (io), 27 AVSS (power) "Ground reference for analog modules", 28 AVDD (power) "Positive supply for analog modules. This pin must be connected at all times"

## PIC32MX120F032B-I/SP
designator U?
32-bit Microcontroller with Audio and Graphics Interface, USB and Advanced Analog, 50 MHz, 21 I/O, PMP, -40 to 85 degC, 28-pin SPDIP (SP28), Tube; Manufacturer: Microchip; PartNumber: PIC32MX120F032B-I/SP; DatasheetVersion: Rev. E; PackageVersion: C04-070B; PackageReference: SPDIP-SP28; PackageDescription: 28-Lead Plastic Dual In-Line, 34.86 x 6.79 mm Body, 2.54 mm Pitch; Supplier 1: Digi-Key; Supplier Part Number 1: PIC32MX120F032B-I/SP-ND; Mounting Technology: Through Hole; ComponentLink1Description: Manufacturer URL; ComponentLink1URL: http://www.microchip.com; ComponentLink2Description: Datasheet; ComponentLink2URL: http://ww1.microchip.com/downloads/en/DeviceDoc/61168E.pdf; ComponentLink3Description: Package Specification; ComponentLink3URL: http://www.microchip.com/stellent/groups/techpub_sg/documents/packagingspec/en012702.pdf; ComponentLink4Description: Product URL; ComponentLink4URL: http://www.microchip.com/PIC32MX120F032B
footprint MCHP-SPDIP-SP28 (DIP, 28-Leads, Body 34.86x6.79mm, Pitch 2.54mm)
pins: 1 ~{MCLR} (in) "Master Clear (Reset) input. This pin is an active-low Reset to the device", 2 VREF+/CVREF+/AN0/C3INC/RPA0/CTED1/RA0 (io), 3 VREF-/CVREF-/AN1/RPA1/CTED2/RA1 (io), 4 PGED1/AN2/C1IND/C2INB/C3IND/RPB0/RB0 (io), 5 PGEC1/AN3/C1INC/C2INA/RPB1/CTED12/RB1 (io), 6 AN4/C1INB/C2IND/RPB2/SDA2/CTED13/RB2 (io), 7 AN5/C1INA/C2INC/RTCC/RPB3/SCL2/RB3 (io), 8 VSS (power) "Ground reference for logic and I/O pins. This pin must be connected at all times.", 9 OSC1/CLKI/RPA2/RA2 (io), 10 OSC2/CLKO/RPA3/PMA0/RA3 (io), 11 SOSCI/RPB4/RB4 (io), 12 SOSCO/RPA4/T1CK/CTED9/PMA1/RA4 (io), 13 VDD (power) "Positive supply for peripheral logic and I/O pins", 14 PGED3/RPB5/PMD7/RB5 (io), 15 PGEC3/RPB6/PMD6/RB6 (io), 16 TDI/RPB7/CTED3/PMD5/INT0/RB7 (io), 17 TCK/RPB8/SCL1/CTED10/PMD4/RB8 (io), 18 TDO/RPB9/SDA1/CTED4/PMD3/RB9 (io), 19 VSS (power) "Ground reference for logic and I/O pins. This pin must be connected at all times.", 20 VCAP "CPU logic filter capacitor connection", 21 PGED2/RPB10/CTED11/PMD2/RB10 (io), 22 PGEC2/TMS/RPB11/PMD1/RB11 (io), 23 AN12/PMD0/RB12 (io), 24 AN11/RPB13/CTPLS/PMRD/RB13 (io), 25 CVREFOUT/AN10/C3INB/RPB14/SCK1/CTED5/PMWR/RB14 (io), 26 AN9/C3INA/RPB15/SCK2/CTED6/PMCS1/RB15 (io), 27 AVSS (power) "Ground reference for analog modules", 28 AVDD (power) "Positive supply for analog modules. This pin must be connected at all times"